# Altium integrated library TI Power Management LDO Single Channel(400-7500mA).IntLib: 1409 symbols (part 10 of 60)
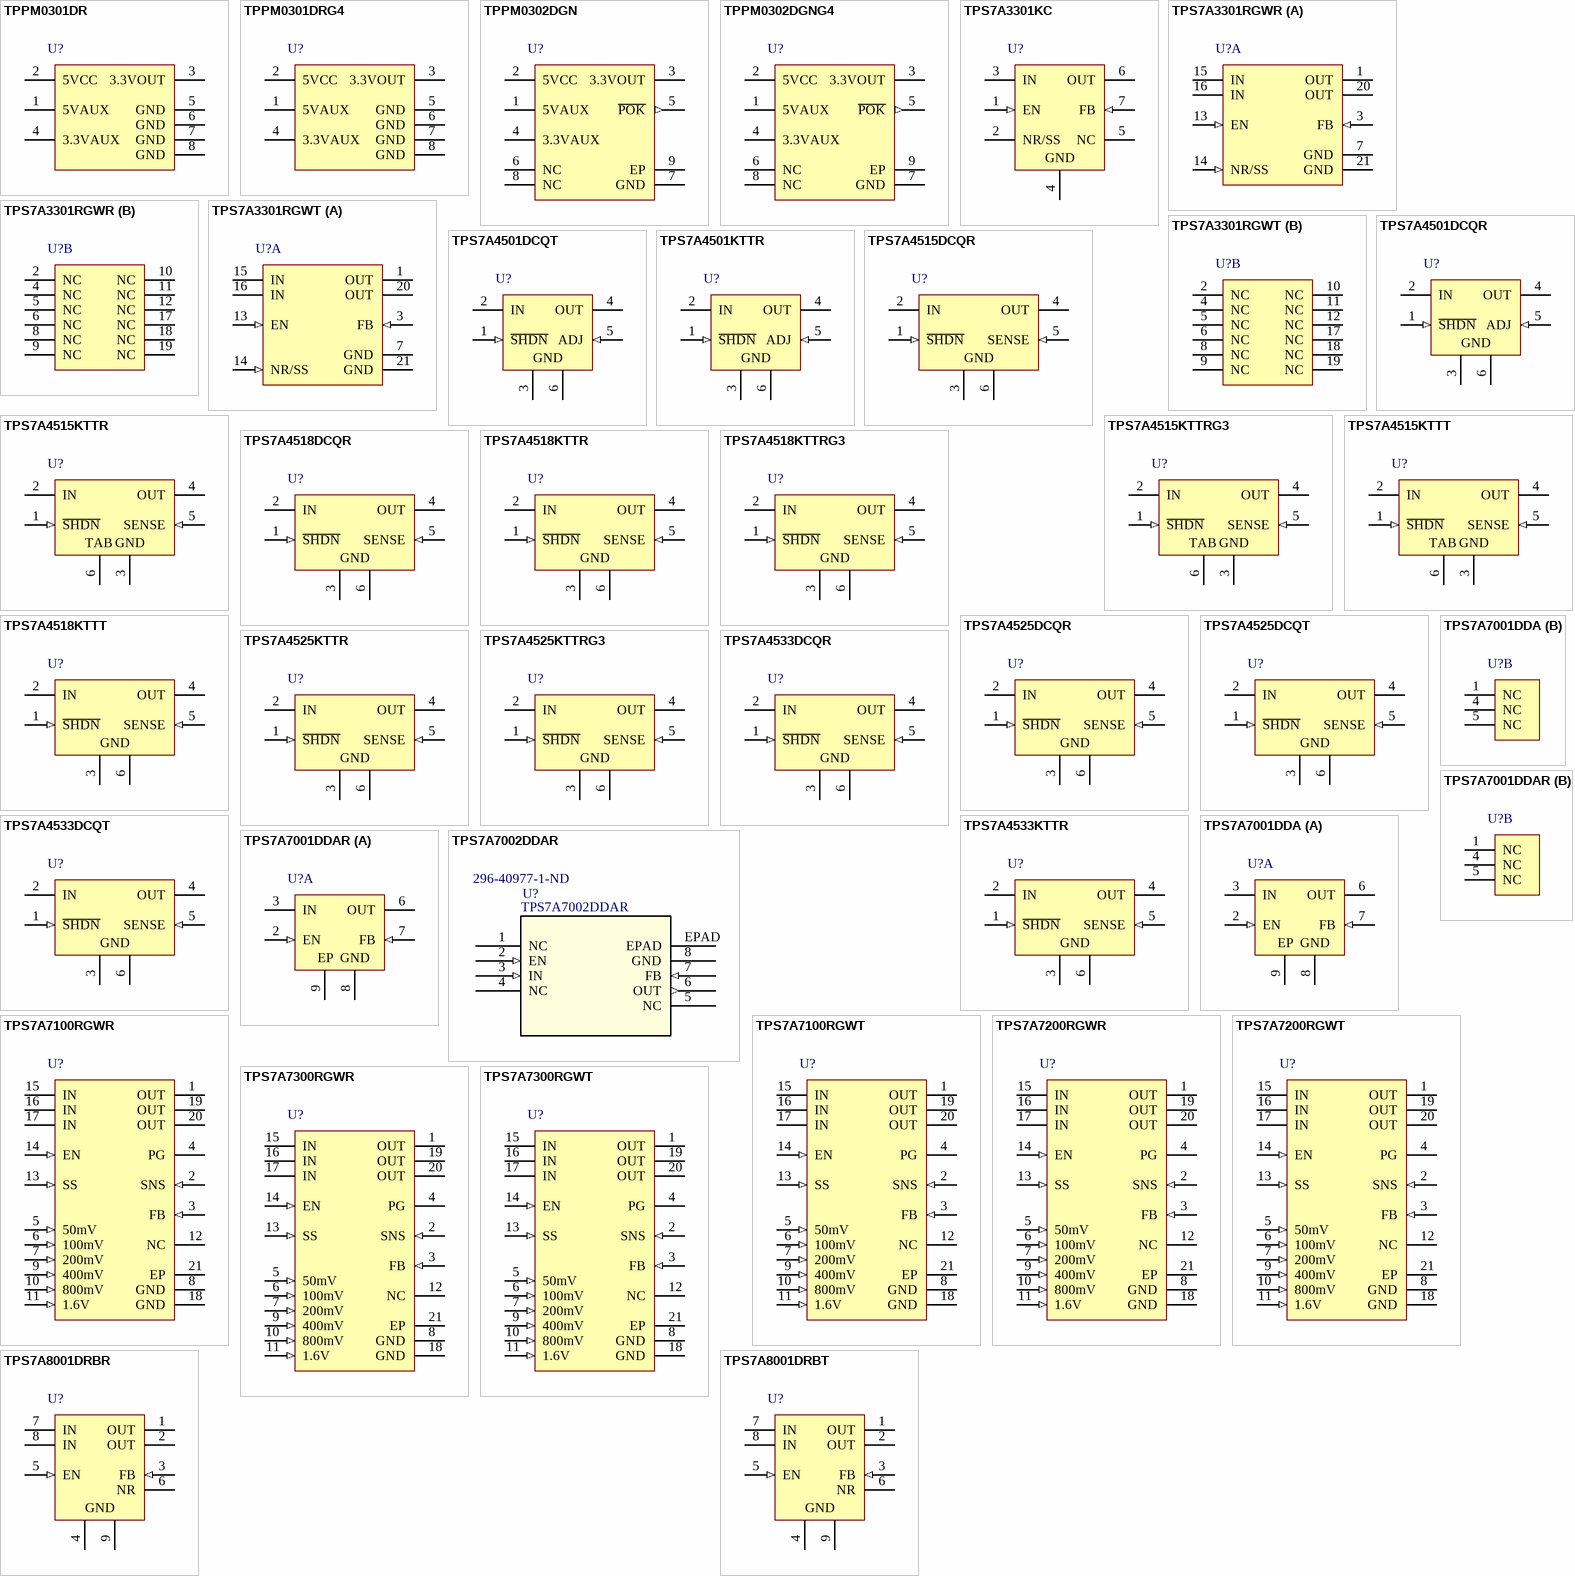
[diagram p59: symbols TPPM0301DR to TPS7A8001DRBT]

## TPS7A4515DCQR
designator U?
Single Output Fast Transient Response LDO, 1.5 A, Fixed 1.5 V Output, 2.1 to 20 V Input, 6-pin SOT-223 (DCQ), -40 to 125 degC, Green (RoHS & no Sb/Br); Manufacturer: Texas Instruments; PartNumber: TPS7A4515DCQR; Accuracy(%): 1; Fixed Output Options(V): 1.5; SubFamily: Single Channel LDO; Vdo(Typ)(mV): 300; Vin(Max)(V): 20; Vin(Min)(V): 2.1; DatasheetVersion: SLVS720D; PackageVersion: 4202109/D; PackageReference: DCQ6; PackageDescription: 6-Pin Plastic Small Outline, Body 3.5 x 6.5 mm, Pitch 1.27 mm; Supplier 1: Digi-Key; Supplier Part Number 1: 296-25413-2-ND; Supplier 2: Digi-Key; Supplier Part Number 2: 296-25413-1-ND; Supplier 3: Digi-Key; Supplier Part Number 3: 296-25413-6-ND; Supplier 4: Newark; Supplier Part Number 4: 55R7643; Supplier 5: Mouser; Supplier Part Number 5: 595-TPS7A4515DCQR; Eco-Plan: Green (RoHS & no Sb/Br); Iout(Max)(A): 1.5; Iq(Typ)(mA): 1; Vout Adj(Max)(V): 1.5; Vout Adj(Min)(V): 1.5; Mounting Technology: Surface Mount; ComponentLink1Description: Manufacturer URL; ComponentLink1URL: http://www.ti.com/; ComponentLink2Description: Datasheet; ComponentLink2URL: http://www.ti.com/general/docs/lit/getliterature.tsp?genericPartNumber=TPS7A4515&fileType=pdf; ComponentLink3Description: Package Specification; ComponentLink3URL: http://www.ti.com/litv/pdf/mpds098c
footprint TI-DCQ6_N (SOT223, 6-Leads, Body 6.5x3.5mm, Pitch 1.27mm, IPC Medium Density)
footprint TI-DCQ6_L (SOT223, 6-Leads, Body 6.5x3.5mm, Pitch 1.27mm, IPC High Density)
footprint TI-DCQ6_M (SOT223, 6-Leads, Body 6.5x3.5mm, Pitch 1.27mm, IPC Low Density)
pins: 1 ~{SHDN} (in) "Shutdown. S\H\D\N\ is used to put the TPS7A45xx regulators into a low-power shutdown state. The output is off when S\H\D\N\ is pulled low. S\H\D\N\ can be driven by 5-V logic, 3-V logic or open-collector logic with a pullup  (See Datasheet)", 2 IN (power) "Input. Power is supplied to the device through IN. A bypass capacitor is required on this pin if the device is more than six inches away from the main input filter capacitor. In general, the output impedance of a battery (See Datasheet)", 3 GND (power) "Ground", 4 OUT (power) "Output. The output supplies power to the load. A minimum output capacitor (ceramic) of 10 uF is required to  prevent oscillations. Larger output capacitors are required for applications with large transient loads to limit (See Datasheet)", 5 SENSE (in) "Sense. For fixed-voltage versions (TPS7A4515, TPS7A4518, TPS7A4525, and TPS7A4533), SENSE is the input to the error amplifier. Optimum regulation is obtained at the point where SENSE is connected to the OUT pin of the (See Datasheet)", 6 GND (power) "Ground. DCQ package only."

## TPS7A4515KTTR
designator U?
Single Output Fast Transient Response LDO, 1.5 A, Fixed 1.5 V Output, 2.1 to 20 V Input, 5-pin DDPAK (KTT), -40 to 125 degC, Green (RoHS & no Sb/Br); Manufacturer: Texas Instruments; PartNumber: TPS7A4515KTTR; Accuracy(%): 1; Fixed Output Options(V): 1.5; SubFamily: Single Channel LDO; Vdo(Typ)(mV): 300; Vin(Max)(V): 20; Vin(Min)(V): 2.1; DatasheetVersion: SLVS720D; PackageVersion: 4200577-3/F; PackageReference: KTT5; PackageDescription: 3-Pin Plastic Flange Mount, Body 10.16 x 10.34 mm, Pitch 1.7 mm; Supplier 1: Digi-Key; Supplier Part Number 1: 296-23752-2-ND; Supplier 2: Digi-Key; Supplier Part Number 2: 296-23752-1-ND; Supplier 3: Digi-Key; Supplier Part Number 3: 296-23752-6-ND; Supplier 4: Mouser; Supplier Part Number 4: 595-TPS7A4515KTTR; Eco-Plan: Green (RoHS & no Sb/Br); Iout(Max)(A): 1.5; Iq(Typ)(mA): 1; Vout Adj(Max)(V): 1.5; Vout Adj(Min)(V): 1.5; Mounting Technology: Surface Mount; Code_JEDEC: TO-263; ComponentLink1Description: Manufacturer URL; ComponentLink1URL: http://www.ti.com/; ComponentLink2Description: Datasheet; ComponentLink2URL: http://www.ti.com/general/docs/lit/getliterature.tsp?genericPartNumber=TPS7A4515&fileType=pdf; ComponentLink3Description: Package Specification; ComponentLink3URL: http://www.ti.com/litv/pdf/mpsf007e
footprint TI-KTT5_N (DPAK, 5-Leads, Body 10.16x8.925mm, Pitch 1.7mm, IPC Medium Density)
footprint TI-KTT5_L (DPAK, 5-Leads, Body 10.16x8.925mm, Pitch 1.7mm, IPC High Density)
footprint TI-KTT5_M (DPAK, 5-Leads, Body 10.16x8.925mm, Pitch 1.7mm, IPC Low Density)
pins: 1 ~{SHDN} (in) "Shutdown. S\H\D\N\ is used to put the TPS7A45xx regulators into a low-power shutdown state. The output is off when S\H\D\N\ is pulled low. S\H\D\N\ can be driven by 5-V logic, 3-V logic or open-collector logic with a pullup (See Datasheet)", 2 IN (power) "Input. Power is supplied to the device through IN. A bypass capacitor is required on this pin if the device is more than six inches away from the main input filter capacitor. In general, the output impedance of a battery (See Datasheet)", 3 GND (power) "Ground", 4 OUT (power) "Output. The output supplies power to the load. A minimum output capacitor (ceramic) of 10 uF is required to prevent oscillations. Larger output capacitors are required for applications with large transient loads to limit (See Datasheet)", 5 SENSE (in) "Sense. For fixed-voltage versions (TPS7A4515, TPS7A4518, TPS7A4525, and TPS7A4533), SENSE is the input to the error amplifier. Optimum regulation is obtained at the point where SENSE is connected to the OUT pin of the (See Datasheet)", 6 TAB (power) "For the KTT package, the exposed thermal pad is connected to GND and must be soldered to the PCB for rated thermal performance."

## TPS7A4515KTTRG3
designator U?
Single Output Fast Transient Response LDO, 1.5 A, Fixed 1.5 V Output, 2.1 to 20 V Input, 5-pin DDPAK (KTT), -40 to 125 degC, Green (RoHS & no Sb/Br); Manufacturer: Texas Instruments; PartNumber: TPS7A4515KTTRG3; Accuracy(%): 1; Fixed Output Options(V): 1.5; SubFamily: Single Channel LDO; Vdo(Typ)(mV): 300; Vin(Max)(V): 20; Vin(Min)(V): 2.1; DatasheetVersion: SLVS720D; PackageVersion: 4200577-3/F; PackageReference: KTT5; PackageDescription: 3-Pin Plastic Flange Mount, Body 10.16 x 10.34 mm, Pitch 1.7 mm; Supplier 1: Digi-Key; Supplier Part Number 1: TPS7A4515KTTRG3-ND; Supplier 2: Mouser; Supplier Part Number 2: 595-TPS7A4515KTTRG3; Eco-Plan: Green (RoHS & no Sb/Br); Iout(Max)(A): 1.5; Iq(Typ)(mA): 1; Vout Adj(Max)(V): 1.5; Vout Adj(Min)(V): 1.5; Mounting Technology: Surface Mount; Code_JEDEC: TO-263; ComponentLink1Description: Manufacturer URL; ComponentLink1URL: http://www.ti.com/; ComponentLink2Description: Datasheet; ComponentLink2URL: http://www.ti.com/general/docs/lit/getliterature.tsp?genericPartNumber=TPS7A4515&fileType=pdf; ComponentLink3Description: Package Specification; ComponentLink3URL: http://www.ti.com/litv/pdf/mpsf007e
footprint TI-KTT5_N (DPAK, 5-Leads, Body 10.16x8.925mm, Pitch 1.7mm, IPC Medium Density)
footprint TI-KTT5_L (DPAK, 5-Leads, Body 10.16x8.925mm, Pitch 1.7mm, IPC High Density)
footprint TI-KTT5_M (DPAK, 5-Leads, Body 10.16x8.925mm, Pitch 1.7mm, IPC Low Density)
pins: 1 ~{SHDN} (in) "Shutdown. S\H\D\N\ is used to put the TPS7A45xx regulators into a low-power shutdown state. The output is off when S\H\D\N\ is pulled low. S\H\D\N\ can be driven by 5-V logic, 3-V logic or open-collector logic with a pullup (See Datasheet)", 2 IN (power) "Input. Power is supplied to the device through IN. A bypass capacitor is required on this pin if the device is more than six inches away from the main input filter capacitor. In general, the output impedance of a battery (See Datasheet)", 3 GND (power) "Ground", 4 OUT (power) "Output. The output supplies power to the load. A minimum output capacitor (ceramic) of 10 uF is required to prevent oscillations. Larger output capacitors are required for applications with large transient loads to limit (See Datasheet)", 5 SENSE (in) "Sense. For fixed-voltage versions (TPS7A4515, TPS7A4518, TPS7A4525, and TPS7A4533), SENSE is the input to the error amplifier. Optimum regulation is obtained at the point where SENSE is connected to the OUT pin of the (See Datasheet)", 6 TAB (power) "For the KTT package, the exposed thermal pad is connected to GND and must be soldered to the PCB for rated thermal performance."

## TPS7A4515KTTT
designator U?
Single Output Fast Transient Response LDO, 1.5 A, Fixed 1.5 V Output, 2.1 to 20 V Input, 5-pin DDPAK (KTT), -40 to 125 degC; Manufacturer: Texas Instruments; PartNumber: TPS7A4515KTTT; Accuracy(%): 1; Fixed Output Options(V): 1.5; SubFamily: Single Channel LDO; Vdo(Typ)(mV): 300; Vin(Max)(V): 20; Vin(Min)(V): 2.1; DatasheetVersion: SLVS720D; PackageVersion: 4200577-3/F; PackageReference: KTT5; PackageDescription: 3-Pin Plastic Flange Mount, Body 10.16 x 10.34 mm, Pitch 1.7 mm; Supplier 1: Mouser; Supplier Part Number 1: N/A; Iout(Max)(A): 1.5; Iq(Typ)(mA): 1; Vout Adj(Max)(V): 1.5; Vout Adj(Min)(V): 1.5; Mounting Technology: Surface Mount; Code_JEDEC: TO-263; ComponentLink1Description: Manufacturer URL; ComponentLink1URL: http://www.ti.com/; ComponentLink2Description: Datasheet; ComponentLink2URL: http://www.ti.com/general/docs/lit/getliterature.tsp?genericPartNumber=TPS7A4515&fileType=pdf; ComponentLink3Description: Package Specification; ComponentLink3URL: http://www.ti.com/litv/pdf/mpsf007e
footprint TI-KTT5_N (DPAK, 5-Leads, Body 10.16x8.925mm, Pitch 1.7mm, IPC Medium Density)
footprint TI-KTT5_L (DPAK, 5-Leads, Body 10.16x8.925mm, Pitch 1.7mm, IPC High Density)
footprint TI-KTT5_M (DPAK, 5-Leads, Body 10.16x8.925mm, Pitch 1.7mm, IPC Low Density)
pins: 1 ~{SHDN} (in) "Shutdown. S\H\D\N\ is used to put the TPS7A45xx regulators into a low-power shutdown state. The output is off when S\H\D\N\ is pulled low. S\H\D\N\ can be driven by 5-V logic, 3-V logic or open-collector logic with a pullup (See Datasheet)", 2 IN (power) "Input. Power is supplied to the device through IN. A bypass capacitor is required on this pin if the device is more than six inches away from the main input filter capacitor. In general, the output impedance of a battery (See Datasheet)", 3 GND (power) "Ground", 4 OUT (power) "Output. The output supplies power to the load. A minimum output capacitor (ceramic) of 10 uF is required to prevent oscillations. Larger output capacitors are required for applications with large transient loads to limit (See Datasheet)", 5 SENSE (in) "Sense. For fixed-voltage versions (TPS7A4515, TPS7A4518, TPS7A4525, and TPS7A4533), SENSE is the input to the error amplifier. Optimum regulation is obtained at the point where SENSE is connected to the OUT pin of the (See Datasheet)", 6 TAB (power) "For the KTT package, the exposed thermal pad is connected to GND and must be soldered to the PCB for rated thermal performance."

## TPS7A4518DCQR
designator U?
Single Output Fast Transient Response LDO, 1.5 A, Fixed 1.8 V Output, 2.1 to 20 V Input, 6-pin SOT-223 (DCQ), -40 to 125 degC, Green (RoHS & no Sb/Br); Manufacturer: Texas Instruments; PartNumber: TPS7A4518DCQR; Accuracy(%): 1; Fixed Output Options(V): 1.8; Iout(Max)(A): 1.5; SubFamily: Single Channel LDO; Vdo(Typ)(mV): 300; Vin(Max)(V): 20; Vin(Min)(V): 2.1; DatasheetVersion: SLVS720D; PackageVersion: 4202109/D; PackageReference: DCQ6; PackageDescription: 6-Pin Plastic Small Outline, Body 3.5 x 6.5 mm, Pitch 1.27 mm; Supplier 1: Digi-Key; Supplier Part Number 1: 296-25414-2-ND; Supplier 2: Digi-Key; Supplier Part Number 2: 296-25414-1-ND; Supplier 3: Digi-Key; Supplier Part Number 3: 296-25414-6-ND; Supplier 4: Mouser; Supplier Part Number 4: 595-TPS7A4518DCQR; Eco-Plan: Green (RoHS & no Sb/Br); Iq(Typ)(mA): 1; Vout Adj(Max)(V): 1.8; Vout Adj(Min)(V): 1.8; Mounting Technology: Surface Mount; ComponentLink1Description: Manufacturer URL; ComponentLink1URL: http://www.ti.com/; ComponentLink2Description: Datasheet; ComponentLink2URL: http://www.ti.com/general/docs/lit/getliterature.tsp?genericPartNumber=TPS7A4518&fileType=pdf; ComponentLink3Description: Package Specification; ComponentLink3URL: http://www.ti.com/litv/pdf/mpds098c
footprint TI-DCQ6_N (SOT223, 6-Leads, Body 6.5x3.5mm, Pitch 1.27mm, IPC Medium Density)
footprint TI-DCQ6_L (SOT223, 6-Leads, Body 6.5x3.5mm, Pitch 1.27mm, IPC High Density)
footprint TI-DCQ6_M (SOT223, 6-Leads, Body 6.5x3.5mm, Pitch 1.27mm, IPC Low Density)
pins: 1 ~{SHDN} (in) "Shutdown. S\H\D\N\ is used to put the TPS7A45xx regulators into a low-power shutdown state. The output is off when S\H\D\N\ is pulled low. S\H\D\N\ can be driven by 5-V logic, 3-V logic or open-collector logic with a pullup  (See Datasheet)", 2 IN (power) "Input. Power is supplied to the device through IN. A bypass capacitor is required on this pin if the device is more than six inches away from the main input filter capacitor. In general, the output impedance of a battery (See Datasheet)", 3 GND (power) "Ground", 4 OUT (power) "Output. The output supplies power to the load. A minimum output capacitor (ceramic) of 10 uF is required to  prevent oscillations. Larger output capacitors are required for applications with large transient loads to limit (See Datasheet)", 5 SENSE (in) "Sense. For fixed-voltage versions (TPS7A4515, TPS7A4518, TPS7A4525, and TPS7A4533), SENSE is the input to the error amplifier. Optimum regulation is obtained at the point where SENSE is connected to the OUT pin of the (See Datasheet)", 6 GND (power) "Ground. DCQ package only."

## TPS7A4518KTTR
designator U?
Single Output Fast Transient Response LDO, 1.5 A, Fixed 1.8 V Output, 2.1 to 20 V Input, 5-pin DDPAK (KTT), -40 to 125 degC, Green (RoHS & no Sb/Br); Manufacturer: Texas Instruments; PartNumber: TPS7A4518KTTR; Accuracy(%): 1; Fixed Output Options(V): 1.8; Iout(Max)(A): 1.5; SubFamily: Single Channel LDO; Vdo(Typ)(mV): 300; Vin(Max)(V): 20; Vin(Min)(V): 2.1; DatasheetVersion: SLVS720D; PackageVersion: 4200577-3/F; PackageReference: KTT5; PackageDescription: 3-Pin Plastic Flange Mount, Body 10.16 x 10.34 mm, Pitch 1.7 mm; Supplier 1: Digi-Key; Supplier Part Number 1: 296-23753-2-ND; Supplier 2: Digi-Key; Supplier Part Number 2: 296-23753-1-ND; Supplier 3: Digi-Key; Supplier Part Number 3: 296-23753-6-ND; Supplier 4: Mouser; Supplier Part Number 4: 595-TPS7A4518KTTR; Eco-Plan: Green (RoHS & no Sb/Br); Iq(Typ)(mA): 1; Vout Adj(Max)(V): 1.8; Vout Adj(Min)(V): 1.8; Mounting Technology: Surface Mount; Code_JEDEC: TO-263; ComponentLink1Description: Manufacturer URL; ComponentLink1URL: http://www.ti.com/; ComponentLink2Description: Datasheet; ComponentLink2URL: http://www.ti.com/general/docs/lit/getliterature.tsp?genericPartNumber=TPS7A4518&fileType=pdf; ComponentLink3Description: Package Specification; ComponentLink3URL: http://www.ti.com/litv/pdf/mpsf007e
footprint TI-KTT5_N (DPAK, 5-Leads, Body 10.16x8.925mm, Pitch 1.7mm, IPC Medium Density)
footprint TI-KTT5_L (DPAK, 5-Leads, Body 10.16x8.925mm, Pitch 1.7mm, IPC High Density)
footprint TI-KTT5_M (DPAK, 5-Leads, Body 10.16x8.925mm, Pitch 1.7mm, IPC Low Density)
pins: 1 ~{SHDN} (in) "Shutdown. S\H\D\N\ is used to put the TPS7A45xx regulators into a low-power shutdown state. The output is off when S\H\D\N\ is pulled low. S\H\D\N\ can be driven by 5-V logic, 3-V logic or open-collector logic with a pullup  (See Datasheet)", 2 IN (power) "Input. Power is supplied to the device through IN. A bypass capacitor is required on this pin if the device is more than six inches away from the main input filter capacitor. In general, the output impedance of a battery (See Datasheet)", 3 GND (power) "Ground", 4 OUT (power) "Output. The output supplies power to the load. A minimum output capacitor (ceramic) of 10 uF is required to  prevent oscillations. Larger output capacitors are required for applications with large transient loads to limit (See Datasheet)", 5 SENSE (in) "Sense. For fixed-voltage versions (TPS7A4515, TPS7A4518, TPS7A4525, and TPS7A4533), SENSE is the input to the error amplifier. Optimum regulation is obtained at the point where SENSE is connected to the OUT pin of the (See Datasheet)", 6 GND (power) "Ground. DCQ package only."

## TPS7A4518KTTRG3
designator U?
Single Output Fast Transient Response LDO, 1.5 A, Fixed 1.8 V Output, 2.1 to 20 V Input, 5-pin DDPAK (KTT), -40 to 125 degC, Green (RoHS & no Sb/Br); Manufacturer: Texas Instruments; PartNumber: TPS7A4518KTTRG3; Accuracy(%): 1; Fixed Output Options(V): 1.8; Iout(Max)(A): 1.5; SubFamily: Single Channel LDO; Vdo(Typ)(mV): 300; Vin(Max)(V): 20; Vin(Min)(V): 2.1; DatasheetVersion: SLVS720D; PackageVersion: 4200577-3/F; PackageReference: KTT5; PackageDescription: 3-Pin Plastic Flange Mount, Body 10.16 x 10.34 mm, Pitch 1.7 mm; Supplier 1: Digi-Key; Supplier Part Number 1: TPS7A4518KTTRG3-ND; Supplier 2: Mouser; Supplier Part Number 2: 595-TPS7A4518KTTRG3; Eco-Plan: Green (RoHS & no Sb/Br); Iq(Typ)(mA): 1; Vout Adj(Max)(V): 1.8; Vout Adj(Min)(V): 1.8; Mounting Technology: Surface Mount; Code_JEDEC: TO-263; ComponentLink1Description: Manufacturer URL; ComponentLink1URL: http://www.ti.com/; ComponentLink2Description: Datasheet; ComponentLink2URL: http://www.ti.com/general/docs/lit/getliterature.tsp?genericPartNumber=TPS7A4518&fileType=pdf; ComponentLink3Description: Package Specification; ComponentLink3URL: http://www.ti.com/litv/pdf/mpsf007e
footprint TI-KTT5_N (DPAK, 5-Leads, Body 10.16x8.925mm, Pitch 1.7mm, IPC Medium Density)
footprint TI-KTT5_L (DPAK, 5-Leads, Body 10.16x8.925mm, Pitch 1.7mm, IPC High Density)
footprint TI-KTT5_M (DPAK, 5-Leads, Body 10.16x8.925mm, Pitch 1.7mm, IPC Low Density)
pins: 1 ~{SHDN} (in) "Shutdown. S\H\D\N\ is used to put the TPS7A45xx regulators into a low-power shutdown state. The output is off when S\H\D\N\ is pulled low. S\H\D\N\ can be driven by 5-V logic, 3-V logic or open-collector logic with a pullup  (See Datasheet)", 2 IN (power) "Input. Power is supplied to the device through IN. A bypass capacitor is required on this pin if the device is more than six inches away from the main input filter capacitor. In general, the output impedance of a battery (See Datasheet)", 3 GND (power) "Ground", 4 OUT (power) "Output. The output supplies power to the load. A minimum output capacitor (ceramic) of 10 uF is required to  prevent oscillations. Larger output capacitors are required for applications with large transient loads to limit (See Datasheet)", 5 SENSE (in) "Sense. For fixed-voltage versions (TPS7A4515, TPS7A4518, TPS7A4525, and TPS7A4533), SENSE is the input to the error amplifier. Optimum regulation is obtained at the point where SENSE is connected to the OUT pin of the (See Datasheet)", 6 GND (power) "Ground. DCQ package only."

## TPS7A4518KTTT
designator U?
Single Output Fast Transient Response LDO, 1.5 A, Fixed 1.8 V Output, 2.1 to 20 V Input, 5-pin DDPAK (KTT), -40 to 125 degC; Manufacturer: Texas Instruments; PartNumber: TPS7A4518KTTT; Accuracy(%): 1; Fixed Output Options(V): 1.8; Iout(Max)(A): 1.5; SubFamily: Single Channel LDO; Vdo(Typ)(mV): 300; Vin(Max)(V): 20; Vin(Min)(V): 2.1; DatasheetVersion: SLVS720D; PackageVersion: 4200577-3/F; PackageReference: KTT5; PackageDescription: 3-Pin Plastic Flange Mount, Body 10.16 x 10.34 mm, Pitch 1.7 mm; Supplier 1: Mouser; Supplier Part Number 1: N/A; Iq(Typ)(mA): 1; Vout Adj(Max)(V): 1.8; Vout Adj(Min)(V): 1.8; Mounting Technology: Surface Mount; Code_JEDEC: TO-263; ComponentLink1Description: Manufacturer URL; ComponentLink1URL: http://www.ti.com/; ComponentLink2Description: Datasheet; ComponentLink2URL: http://www.ti.com/general/docs/lit/getliterature.tsp?genericPartNumber=TPS7A4518&fileType=pdf; ComponentLink3Description: Package Specification; ComponentLink3URL: http://www.ti.com/litv/pdf/mpsf007e
footprint TI-KTT5_N (DPAK, 5-Leads, Body 10.16x8.925mm, Pitch 1.7mm, IPC Medium Density)
footprint TI-KTT5_L (DPAK, 5-Leads, Body 10.16x8.925mm, Pitch 1.7mm, IPC High Density)
footprint TI-KTT5_M (DPAK, 5-Leads, Body 10.16x8.925mm, Pitch 1.7mm, IPC Low Density)
pins: 1 ~{SHDN} (in) "Shutdown. S\H\D\N\ is used to put the TPS7A45xx regulators into a low-power shutdown state. The output is off when S\H\D\N\ is pulled low. S\H\D\N\ can be driven by 5-V logic, 3-V logic or open-collector logic with a pullup  (See Datasheet)", 2 IN (power) "Input. Power is supplied to the device through IN. A bypass capacitor is required on this pin if the device is more than six inches away from the main input filter capacitor. In general, the output impedance of a battery (See Datasheet)", 3 GND (power) "Ground", 4 OUT (power) "Output. The output supplies power to the load. A minimum output capacitor (ceramic) of 10 uF is required to  prevent oscillations. Larger output capacitors are required for applications with large transient loads to limit (See Datasheet)", 5 SENSE (in) "Sense. For fixed-voltage versions (TPS7A4515, TPS7A4518, TPS7A4525, and TPS7A4533), SENSE is the input to the error amplifier. Optimum regulation is obtained at the point where SENSE is connected to the OUT pin of the (See Datasheet)", 6 GND (power) "Ground. DCQ package only."

## TPS7A4525DCQR
designator U?
Single Output Fast Transient Response LDO, 1.5 A, Fixed 2.5 V Output, 2.1 to 20 V Input, 6-pin SOT-223 (DCQ), -40 to 125 degC, Green (RoHS & no Sb/Br); Manufacturer: Texas Instruments; PartNumber: TPS7A4525DCQR; Accuracy(%): 1; Fixed Output Options(V): 2.5; Iout(Max)(A): 1.5; SubFamily: Single Channel LDO; Vdo(Typ)(mV): 300; Vin(Max)(V): 20; Vin(Min)(V): 2.1; DatasheetVersion: SLVS720D; PackageVersion: 4202109/D; PackageReference: DCQ6; PackageDescription: 6-Pin Plastic Small Outline, Body 3.5 x 6.5 mm, Pitch 1.27 mm; Supplier 1: Digi-Key; Supplier Part Number 1: TPS7A4525DCQR-ND; Supplier 2: Newark; Supplier Part Number 2: 61T6059; Supplier 3: Mouser; Supplier Part Number 3: 595-TPS7A4525DCQR; Eco-Plan: Green (RoHS & no Sb/Br); Iq(Typ)(mA): 1; Vout Adj(Max)(V): 2.5; Vout Adj(Min)(V): 2.5; Mounting Technology: Surface Mount; ComponentLink1Description: Manufacturer URL; ComponentLink1URL: http://www.ti.com/; ComponentLink2Description: Datasheet; ComponentLink2URL: http://www.ti.com/general/docs/lit/getliterature.tsp?genericPartNumber=TPS7A4525&fileType=pdf; ComponentLink3Description: Package Specification; ComponentLink3URL: http://www.ti.com/litv/pdf/mpds098c
footprint TI-DCQ6_N (SOT223, 6-Leads, Body 6.5x3.5mm, Pitch 1.27mm, IPC Medium Density)
footprint TI-DCQ6_L (SOT223, 6-Leads, Body 6.5x3.5mm, Pitch 1.27mm, IPC High Density)
footprint TI-DCQ6_M (SOT223, 6-Leads, Body 6.5x3.5mm, Pitch 1.27mm, IPC Low Density)
pins: 1 ~{SHDN} (in) "Shutdown. S\H\D\N\ is used to put the TPS7A45xx regulators into a low-power shutdown state. The output is off when S\H\D\N\ is pulled low. S\H\D\N\ can be driven by 5-V logic, 3-V logic or open-collector logic with a pullup  (See Datasheet)", 2 IN (power) "Input. Power is supplied to the device through IN. A bypass capacitor is required on this pin if the device is more than six inches away from the main input filter capacitor. In general, the output impedance of a battery (See Datasheet)", 3 GND (power) "Ground", 4 OUT (power) "Output. The output supplies power to the load. A minimum output capacitor (ceramic) of 10 uF is required to  prevent oscillations. Larger output capacitors are required for applications with large transient loads to limit (See Datasheet)", 5 SENSE (in) "Sense. For fixed-voltage versions (TPS7A4515, TPS7A4518, TPS7A4525, and TPS7A4533), SENSE is the input to the error amplifier. Optimum regulation is obtained at the point where SENSE is connected to the OUT pin of the (See Datasheet)", 6 GND (power) "Ground. DCQ package only."

## TPS7A4525DCQT
designator U?
Single Output Fast Transient Response LDO, 1.5 A, Fixed 2.5 V Output, 2.1 to 20 V Input, 6-pin SOT-223 (DCQ), -40 to 125 degC, Green (RoHS & no Sb/Br); Manufacturer: Texas Instruments; PartNumber: TPS7A4525DCQT; Accuracy(%): 1; Fixed Output Options(V): 2.5; Iout(Max)(A): 1.5; SubFamily: Single Channel LDO; Vdo(Typ)(mV): 300; Vin(Max)(V): 20; Vin(Min)(V): 2.1; DatasheetVersion: SLVS720D; PackageVersion: 4202109/D; PackageReference: DCQ6; PackageDescription: 6-Pin Plastic Small Outline, Body 3.5 x 6.5 mm, Pitch 1.27 mm; Supplier 1: Digi-Key; Supplier Part Number 1: TPS7A4525DCQT-ND; Supplier 2: Mouser; Supplier Part Number 2: 595-TPS7A4525DCQT; Eco-Plan: Green (RoHS & no Sb/Br); Iq(Typ)(mA): 1; Vout Adj(Max)(V): 2.5; Vout Adj(Min)(V): 2.5; Mounting Technology: Surface Mount; ComponentLink1Description: Manufacturer URL; ComponentLink1URL: http://www.ti.com/; ComponentLink2Description: Datasheet; ComponentLink2URL: http://www.ti.com/general/docs/lit/getliterature.tsp?genericPartNumber=TPS7A4525&fileType=pdf; ComponentLink3Description: Package Specification; ComponentLink3URL: http://www.ti.com/litv/pdf/mpds098c
footprint TI-DCQ6_N (SOT223, 6-Leads, Body 6.5x3.5mm, Pitch 1.27mm, IPC Medium Density)
footprint TI-DCQ6_L (SOT223, 6-Leads, Body 6.5x3.5mm, Pitch 1.27mm, IPC High Density)
footprint TI-DCQ6_M (SOT223, 6-Leads, Body 6.5x3.5mm, Pitch 1.27mm, IPC Low Density)
pins: 1 ~{SHDN} (in) "Shutdown. S\H\D\N\ is used to put the TPS7A45xx regulators into a low-power shutdown state. The output is off when S\H\D\N\ is pulled low. S\H\D\N\ can be driven by 5-V logic, 3-V logic or open-collector logic with a pullup  (See Datasheet)", 2 IN (power) "Input. Power is supplied to the device through IN. A bypass capacitor is required on this pin if the device is more than six inches away from the main input filter capacitor. In general, the output impedance of a battery (See Datasheet)", 3 GND (power) "Ground", 4 OUT (power) "Output. The output supplies power to the load. A minimum output capacitor (ceramic) of 10 uF is required to  prevent oscillations. Larger output capacitors are required for applications with large transient loads to limit (See Datasheet)", 5 SENSE (in) "Sense. For fixed-voltage versions (TPS7A4515, TPS7A4518, TPS7A4525, and TPS7A4533), SENSE is the input to the error amplifier. Optimum regulation is obtained at the point where SENSE is connected to the OUT pin of the (See Datasheet)", 6 GND (power) "Ground. DCQ package only."

## TPS7A4525KTTR
designator U?
Single Output Fast Transient Response LDO, 1.5 A, Fixed 2.5 V Output, 2.1 to 20 V Input, 5-pin DDPAK (KTT), -40 to 125 degC, Green (RoHS & no Sb/Br); Manufacturer: Texas Instruments; PartNumber: TPS7A4525KTTR; Accuracy(%): 1; Fixed Output Options(V): 2.5; Iout(Max)(A): 1.5; SubFamily: Single Channel LDO; Vdo(Typ)(mV): 300; Vin(Max)(V): 20; Vin(Min)(V): 2.1; DatasheetVersion: SLVS720D; PackageVersion: 4200577-3/F; PackageReference: KTT5; PackageDescription: 3-Pin Plastic Flange Mount, Body 10.16 x 10.34 mm, Pitch 1.7 mm; Supplier 1: Digi-Key; Supplier Part Number 1: 296-23754-2-ND; Supplier 2: Digi-Key; Supplier Part Number 2: 296-23754-1-ND; Supplier 3: Digi-Key; Supplier Part Number 3: 296-23754-6-ND; Supplier 4: Newark; Supplier Part Number 4: 33R2196; Supplier 5: Mouser; Supplier Part Number 5: 595-TPS7A4525KTTR; Eco-Plan: Green (RoHS & no Sb/Br); Iq(Typ)(mA): 1; Vout Adj(Max)(V): 2.5; Vout Adj(Min)(V): 2.5; Mounting Technology: Surface Mount; Code_JEDEC: TO-263; ComponentLink1Description: Manufacturer URL; ComponentLink1URL: http://www.ti.com/; ComponentLink2Description: Datasheet; ComponentLink2URL: http://www.ti.com/general/docs/lit/getliterature.tsp?genericPartNumber=TPS7A4525&fileType=pdf; ComponentLink3Description: Package Specification; ComponentLink3URL: http://www.ti.com/litv/pdf/mpsf007e
footprint TI-KTT5_N (DPAK, 5-Leads, Body 10.16x8.925mm, Pitch 1.7mm, IPC Medium Density)
footprint TI-KTT5_L (DPAK, 5-Leads, Body 10.16x8.925mm, Pitch 1.7mm, IPC High Density)
footprint TI-KTT5_M (DPAK, 5-Leads, Body 10.16x8.925mm, Pitch 1.7mm, IPC Low Density)
pins: 1 ~{SHDN} (in) "Shutdown. S\H\D\N\ is used to put the TPS7A45xx regulators into a low-power shutdown state. The output is off when S\H\D\N\ is pulled low. S\H\D\N\ can be driven by 5-V logic, 3-V logic or open-collector logic with a pullup  (See Datasheet)", 2 IN (power) "Input. Power is supplied to the device through IN. A bypass capacitor is required on this pin if the device is more than six inches away from the main input filter capacitor. In general, the output impedance of a battery (See Datasheet)", 3 GND (power) "Ground", 4 OUT (power) "Output. The output supplies power to the load. A minimum output capacitor (ceramic) of 10 uF is required to  prevent oscillations. Larger output capacitors are required for applications with large transient loads to limit (See Datasheet)", 5 SENSE (in) "Sense. For fixed-voltage versions (TPS7A4515, TPS7A4518, TPS7A4525, and TPS7A4533), SENSE is the input to the error amplifier. Optimum regulation is obtained at the point where SENSE is connected to the OUT pin of the (See Datasheet)", 6 GND (power) "Ground. DCQ package only."

## TPS7A4525KTTRG3
designator U?
Single Output Fast Transient Response LDO, 1.5 A, Fixed 2.5 V Output, 2.1 to 20 V Input, 5-pin DDPAK (KTT), -40 to 125 degC, Green (RoHS & no Sb/Br); Manufacturer: Texas Instruments; PartNumber: TPS7A4525KTTRG3; Accuracy(%): 1; Fixed Output Options(V): 2.5; Iout(Max)(A): 1.5; SubFamily: Single Channel LDO; Vdo(Typ)(mV): 300; Vin(Max)(V): 20; Vin(Min)(V): 2.1; DatasheetVersion: SLVS720D; PackageVersion: 4200577-3/F; PackageReference: KTT5; PackageDescription: 3-Pin Plastic Flange Mount, Body 10.16 x 10.34 mm, Pitch 1.7 mm; Supplier 1: Digi-Key; Supplier Part Number 1: TPS7A4525KTTRG3-ND; Supplier 2: Mouser; Supplier Part Number 2: 595-TPS7A4525KTTRG3; Eco-Plan: Green (RoHS & no Sb/Br); Iq(Typ)(mA): 1; Vout Adj(Max)(V): 2.5; Vout Adj(Min)(V): 2.5; Mounting Technology: Surface Mount; Code_JEDEC: TO-263; ComponentLink1Description: Manufacturer URL; ComponentLink1URL: http://www.ti.com/; ComponentLink2Description: Datasheet; ComponentLink2URL: http://www.ti.com/general/docs/lit/getliterature.tsp?genericPartNumber=TPS7A4525&fileType=pdf; ComponentLink3Description: Package Specification; ComponentLink3URL: http://www.ti.com/litv/pdf/mpsf007e
footprint TI-KTT5_N (DPAK, 5-Leads, Body 10.16x8.925mm, Pitch 1.7mm, IPC Medium Density)
footprint TI-KTT5_L (DPAK, 5-Leads, Body 10.16x8.925mm, Pitch 1.7mm, IPC High Density)
footprint TI-KTT5_M (DPAK, 5-Leads, Body 10.16x8.925mm, Pitch 1.7mm, IPC Low Density)
pins: 1 ~{SHDN} (in) "Shutdown. S\H\D\N\ is used to put the TPS7A45xx regulators into a low-power shutdown state. The output is off when S\H\D\N\ is pulled low. S\H\D\N\ can be driven by 5-V logic, 3-V logic or open-collector logic with a pullup  (See Datasheet)", 2 IN (power) "Input. Power is supplied to the device through IN. A bypass capacitor is required on this pin if the device is more than six inches away from the main input filter capacitor. In general, the output impedance of a battery (See Datasheet)", 3 GND (power) "Ground", 4 OUT (power) "Output. The output supplies power to the load. A minimum output capacitor (ceramic) of 10 uF is required to  prevent oscillations. Larger output capacitors are required for applications with large transient loads to limit (See Datasheet)", 5 SENSE (in) "Sense. For fixed-voltage versions (TPS7A4515, TPS7A4518, TPS7A4525, and TPS7A4533), SENSE is the input to the error amplifier. Optimum regulation is obtained at the point where SENSE is connected to the OUT pin of the (See Datasheet)", 6 GND (power) "Ground. DCQ package only."

## TPS7A4533DCQR
designator U?
Single Output Fast Transient Response LDO, 1.5 A, Fixed 3.3 V Output, 2.1 to 20 V Input, 6-pin SOT-223 (DCQ), -40 to 125 degC, Green (RoHS & no Sb/Br); Manufacturer: Texas Instruments; PartNumber: TPS7A4533DCQR; Accuracy(%): 1; Fixed Output Options(V): 3.3; Iout(Max)(A): 1.5; SubFamily: Single Channel LDO; Vdo(Typ)(mV): 300; Vin(Max)(V): 20; Vin(Min)(V): 2.1; DatasheetVersion: SLVS720D; PackageVersion: 4202109/D; PackageReference: DCQ6; PackageDescription: 6-Pin Plastic Small Outline, Body 3.5 x 6.5 mm, Pitch 1.27 mm; Supplier 1: Digi-Key; Supplier Part Number 1: TPS7A4533DCQR-ND; Supplier 2: Newark; Supplier Part Number 2: 69R0445; Supplier 3: Mouser; Supplier Part Number 3: 595-TPS7A4533DCQR; Eco-Plan: Green (RoHS & no Sb/Br); Iq(Typ)(mA): 1; Vout Adj(Max)(V): 3.3; Vout Adj(Min)(V): 3.3; Mounting Technology: Surface Mount; ComponentLink1Description: Manufacturer URL; ComponentLink1URL: http://www.ti.com/; ComponentLink2Description: Datasheet; ComponentLink2URL: http://www.ti.com/general/docs/lit/getliterature.tsp?genericPartNumber=TPS7A4533&fileType=pdf; ComponentLink3Description: Package Specification; ComponentLink3URL: http://www.ti.com/litv/pdf/mpds098c
footprint TI-DCQ6_N (SOT223, 6-Leads, Body 6.5x3.5mm, Pitch 1.27mm, IPC Medium Density)
footprint TI-DCQ6_L (SOT223, 6-Leads, Body 6.5x3.5mm, Pitch 1.27mm, IPC High Density)
footprint TI-DCQ6_M (SOT223, 6-Leads, Body 6.5x3.5mm, Pitch 1.27mm, IPC Low Density)
pins: 1 ~{SHDN} (in) "Shutdown. S\H\D\N\ is used to put the TPS7A45xx regulators into a low-power shutdown state. The output is off when S\H\D\N\ is pulled low. S\H\D\N\ can be driven by 5-V logic, 3-V logic or open-collector logic with a pullup  (See Datasheet)", 2 IN (power) "Input. Power is supplied to the device through IN. A bypass capacitor is required on this pin if the device is more than six inches away from the main input filter capacitor. In general, the output impedance of a battery (See Datasheet)", 3 GND (power) "Ground", 4 OUT (power) "Output. The output supplies power to the load. A minimum output capacitor (ceramic) of 10 uF is required to  prevent oscillations. Larger output capacitors are required for applications with large transient loads to limit (See Datasheet)", 5 SENSE (in) "Sense. For fixed-voltage versions (TPS7A4515, TPS7A4518, TPS7A4525, and TPS7A4533), SENSE is the input to the error amplifier. Optimum regulation is obtained at the point where SENSE is connected to the OUT pin of the (See Datasheet)", 6 GND (power) "Ground. DCQ package only."

## TPS7A4533DCQT
designator U?
Single Output Fast Transient Response LDO, 1.5 A, Fixed 3.3 V Output, 2.1 to 20 V Input, 6-pin SOT-223 (DCQ), -40 to 125 degC, Green (RoHS & no Sb/Br); Manufacturer: Texas Instruments; PartNumber: TPS7A4533DCQT; Accuracy(%): 1; Fixed Output Options(V): 3.3; Iout(Max)(A): 1.5; SubFamily: Single Channel LDO; Vdo(Typ)(mV): 300; Vin(Max)(V): 20; Vin(Min)(V): 2.1; DatasheetVersion: SLVS720D; PackageVersion: 4202109/D; PackageReference: DCQ6; PackageDescription: 6-Pin Plastic Small Outline, Body 3.5 x 6.5 mm, Pitch 1.27 mm; Supplier 1: Digi-Key; Supplier Part Number 1: 296-32587-2-ND; Supplier 2: Digi-Key; Supplier Part Number 2: 296-32587-1-ND; Supplier 3: Digi-Key; Supplier Part Number 3: 296-32587-6-ND; Supplier 4: Newark; Supplier Part Number 4: 69R0446; Supplier 5: Mouser; Supplier Part Number 5: 595-TPS7A4533DCQT; Eco-Plan: Green (RoHS & no Sb/Br); Iq(Typ)(mA): 1; Vout Adj(Max)(V): 3.3; Vout Adj(Min)(V): 3.3; Mounting Technology: Surface Mount; ComponentLink1Description: Manufacturer URL; ComponentLink1URL: http://www.ti.com/; ComponentLink2Description: Datasheet; ComponentLink2URL: http://www.ti.com/general/docs/lit/getliterature.tsp?genericPartNumber=TPS7A4533&fileType=pdf; ComponentLink3Description: Package Specification; ComponentLink3URL: http://www.ti.com/litv/pdf/mpds098c
footprint TI-DCQ6_N (SOT223, 6-Leads, Body 6.5x3.5mm, Pitch 1.27mm, IPC Medium Density)
footprint TI-DCQ6_L (SOT223, 6-Leads, Body 6.5x3.5mm, Pitch 1.27mm, IPC High Density)
footprint TI-DCQ6_M (SOT223, 6-Leads, Body 6.5x3.5mm, Pitch 1.27mm, IPC Low Density)
pins: 1 ~{SHDN} (in) "Shutdown. S\H\D\N\ is used to put the TPS7A45xx regulators into a low-power shutdown state. The output is off when S\H\D\N\ is pulled low. S\H\D\N\ can be driven by 5-V logic, 3-V logic or open-collector logic with a pullup  (See Datasheet)", 2 IN (power) "Input. Power is supplied to the device through IN. A bypass capacitor is required on this pin if the device is more than six inches away from the main input filter capacitor. In general, the output impedance of a battery (See Datasheet)", 3 GND (power) "Ground", 4 OUT (power) "Output. The output supplies power to the load. A minimum output capacitor (ceramic) of 10 uF is required to  prevent oscillations. Larger output capacitors are required for applications with large transient loads to limit (See Datasheet)", 5 SENSE (in) "Sense. For fixed-voltage versions (TPS7A4515, TPS7A4518, TPS7A4525, and TPS7A4533), SENSE is the input to the error amplifier. Optimum regulation is obtained at the point where SENSE is connected to the OUT pin of the (See Datasheet)", 6 GND (power) "Ground. DCQ package only."

## TPS7A4533KTTR
designator U?
Single Output Fast Transient Response LDO, 1.5 A, Fixed 3.3 V Output, 2.1 to 20 V Input, 5-pin DDPAK (KTT), -40 to 125 degC, Green (RoHS & no Sb/Br); Manufacturer: Texas Instruments; PartNumber: TPS7A4533KTTR; Accuracy(%): 1; Fixed Output Options(V): 3.3; Iout(Max)(A): 1.5; SubFamily: Single Channel LDO; Vdo(Typ)(mV): 300; Vin(Max)(V): 20; Vin(Min)(V): 2.1; DatasheetVersion: SLVS720D; PackageVersion: 4200577-3/F; PackageReference: KTT5; PackageDescription: 3-Pin Plastic Flange Mount, Body 10.16 x 10.34 mm, Pitch 1.7 mm; Supplier 1: Digi-Key; Supplier Part Number 1: 296-23755-2-ND; Supplier 2: Digi-Key; Supplier Part Number 2: 296-23755-1-ND; Supplier 3: Digi-Key; Supplier Part Number 3: 296-23755-6-ND; Supplier 4: Farnell; Supplier Part Number 4: 1755658RL; Supplier 5: Farnell; Supplier Part Number 5: 1755658; Supplier 6: Newark; Supplier Part Number 6: 77R3194; Supplier 7: Newark; Supplier Part Number 7: 03P5252; Supplier 8: Mouser; Supplier Part Number 8: 595-TPS7A4533KTTR; Eco-Plan: Green (RoHS & no Sb/Br); Iq(Typ)(mA): 1; Vout Adj(Max)(V): 3.3; Vout Adj(Min)(V): 3.3; Mounting Technology: Surface Mount; Code_JEDEC: TO-263; ComponentLink1Description: Manufacturer URL; ComponentLink1URL: http://www.ti.com/; ComponentLink2Description: Datasheet; ComponentLink2URL: http://www.ti.com/general/docs/lit/getliterature.tsp?genericPartNumber=TPS7A4533&fileType=pdf; ComponentLink3Description: Package Specification; ComponentLink3URL: http://www.ti.com/litv/pdf/mpsf007e
footprint TI-KTT5_N (DPAK, 5-Leads, Body 10.16x8.925mm, Pitch 1.7mm, IPC Medium Density)
footprint TI-KTT5_L (DPAK, 5-Leads, Body 10.16x8.925mm, Pitch 1.7mm, IPC High Density)
footprint TI-KTT5_M (DPAK, 5-Leads, Body 10.16x8.925mm, Pitch 1.7mm, IPC Low Density)
pins: 1 ~{SHDN} (in) "Shutdown. S\H\D\N\ is used to put the TPS7A45xx regulators into a low-power shutdown state. The output is off when S\H\D\N\ is pulled low. S\H\D\N\ can be driven by 5-V logic, 3-V logic or open-collector logic with a pullup  (See Datasheet)", 2 IN (power) "Input. Power is supplied to the device through IN. A bypass capacitor is required on this pin if the device is more than six inches away from the main input filter capacitor. In general, the output impedance of a battery (See Datasheet)", 3 GND (power) "Ground", 4 OUT (power) "Output. The output supplies power to the load. A minimum output capacitor (ceramic) of 10 uF is required to  prevent oscillations. Larger output capacitors are required for applications with large transient loads to limit (See Datasheet)", 5 SENSE (in) "Sense. For fixed-voltage versions (TPS7A4515, TPS7A4518, TPS7A4525, and TPS7A4533), SENSE is the input to the error amplifier. Optimum regulation is obtained at the point where SENSE is connected to the OUT pin of the (See Datasheet)", 6 GND (power) "Ground. DCQ package only."

## TPS7A7001DDA
designator U?
Single Output Very Low Input LDO, 2 A, Adjustable 0.9 to 5 V Output, 1.5 to 6.5 V Input, 8-pin SOPowerPAD (DDA), -40 to 125 degC, Green (RoHS & no Sb/Br); Manufacturer: Texas Instruments; PartNumber: TPS7A7001DDA; Accuracy(%): 2; Iq(Typ)(mA): 0.01; SubFamily: Single Channel LDO; Vdo(Typ)(mV): 170; Vin(Max)(V): 6.5; Vin(Min)(V): 1.5; Vout Adj(Max)(V): 5; Vout Adj(Min)(V): 0.9; DatasheetVersion: SBVS134B; PackageVersion: 4202561/F; PackageReference: DDA8-2875X2025TP; PackageDescription: 8-Pin Plastic Small Outline, Body 3.9 x 4.9 mm, Pitch 1.27 mm; Supplier 1: Digi-Key; Supplier Part Number 1: 296-30254-ND; Supplier 2: Farnell; Supplier Part Number 2: 2095829; Supplier 3: Newark; Supplier Part Number 3: 91T5127; Supplier 4: Mouser; Supplier Part Number 4: 595-TPS7A7001DDA; Eco-Plan: Green (RoHS & no Sb/Br); Iout(Max)(A): 2; Mounting Technology: Surface Mount; Code_JEDEC: MS-012; ComponentLink1Description: Manufacturer URL; ComponentLink1URL: http://www.ti.com/; ComponentLink2Description: Datasheet; ComponentLink2URL: http://www.ti.com/general/docs/lit/getliterature.tsp?genericPartNumber=TPS7A7001&fileType=pdf; ComponentLink3Description: Package Specification; ComponentLink3URL: http://www.ti.com/litv/pdf/mpds092e
footprint TI-DDA8-2875X2025TP_N (SOP, 8-Leads, Body 4.9x3.9mm, Pitch 1.27mm, Thermal Pad 2.875X2.025mm, IPC Medium Density)
footprint TI-DDA8-2875X2025TP_L (SOP, 8-Leads, Body 4.9x3.9mm, Pitch 1.27mm, Thermal Pad 2.875X2.025mm, IPC High Density)
footprint TI-DDA8-2875X2025TP_M (SOP, 8-Leads, Body 4.9x3.9mm, Pitch 1.27mm, Thermal Pad 2.875X2.025mm, IPC Low Density)
part A pins: 2 EN (in) "Enable input. Pulling this pin below 0.5 V turns the regulator off. Connect to VIN if not being used.", 3 IN (power) "Unregulated supply voltage pin. It is recommended to connect an input capacitor to this pin.", 6 OUT (power) "Regulated output pin. A 4.7-uF or larger capacitor of any type is required for stability.", 7 FB (in) "This pin is the output voltage feedback input through voltage dividers. See the recommended feedback resistor table for more details.", 8 GND (power) "Ground pin", 9 EP (power) "It is strongly recommended to connect the thermal pad to a large-area ground plane. If an electrically floating, dedicated thermal plane is available, the thermal pad can also be connected to it."
part B pins: 1 NC "Not internally connected. The NC pin is not connected to any electrical node. It is recommended to connect the NC pin to large-area planes.", 4 NC "Not internally connected. The NC pin is not connected to any electrical node. It is recommended to connect the NC pin to large-area planes.", 5 NC "Not internally connected. The NC pin is not connected to any electrical node. It is recommended to connect the NC pin to large-area planes."

## TPS7A7001DDAR
designator U?
Single Output Very Low Input LDO, 2 A, Adjustable 0.9 to 5 V Output, 1.5 to 6.5 V Input, 8-pin SOPowerPAD (DDA), -40 to 125 degC, Green (RoHS & no Sb/Br); Manufacturer: Texas Instruments; PartNumber: TPS7A7001DDAR; Accuracy(%): 2; Iq(Typ)(mA): 0.01; SubFamily: Single Channel LDO; Vdo(Typ)(mV): 170; Vin(Max)(V): 6.5; Vin(Min)(V): 1.5; Vout Adj(Max)(V): 5; Vout Adj(Min)(V): 0.9; DatasheetVersion: SBVS134B; PackageVersion: 4202561/F; PackageReference: DDA8-2875X2025TP; PackageDescription: 8-Pin Plastic Small Outline, Body 3.9 x 4.9 mm, Pitch 1.27 mm; Supplier 1: Digi-Key; Supplier Part Number 1: TPS7A7001DDAR-ND; Supplier 2: Newark; Supplier Part Number 2: 82T4259; Supplier 3: Mouser; Supplier Part Number 3: 595-TPS7A7001DDAR; Eco-Plan: Green (RoHS & no Sb/Br); Iout(Max)(A): 2; Mounting Technology: Surface Mount; Code_JEDEC: MS-012; ComponentLink1Description: Manufacturer URL; ComponentLink1URL: http://www.ti.com/; ComponentLink2Description: Datasheet; ComponentLink2URL: http://www.ti.com/general/docs/lit/getliterature.tsp?genericPartNumber=TPS7A7001&fileType=pdf; ComponentLink3Description: Package Specification; ComponentLink3URL: http://www.ti.com/litv/pdf/mpds092e
footprint TI-DDA8-2875X2025TP_N (SOP, 8-Leads, Body 4.9x3.9mm, Pitch 1.27mm, Thermal Pad 2.875X2.025mm, IPC Medium Density)
footprint TI-DDA8-2875X2025TP_L (SOP, 8-Leads, Body 4.9x3.9mm, Pitch 1.27mm, Thermal Pad 2.875X2.025mm, IPC High Density)
footprint TI-DDA8-2875X2025TP_M (SOP, 8-Leads, Body 4.9x3.9mm, Pitch 1.27mm, Thermal Pad 2.875X2.025mm, IPC Low Density)
part A pins: 2 EN (in) "Enable input. Pulling this pin below 0.5 V turns the regulator off. Connect to VIN if not being used.", 3 IN (power) "Unregulated supply voltage pin. It is recommended to connect an input capacitor to this pin.", 6 OUT (power) "Regulated output pin. A 4.7-uF or larger capacitor of any type is required for stability.", 7 FB (in) "This pin is the output voltage feedback input through voltage dividers. See the recommended feedback resistor table for more details.", 8 GND (power) "Ground pin", 9 EP (power) "It is strongly recommended to connect the thermal pad to a large-area ground plane. If an electrically floating, dedicated thermal plane is available, the thermal pad can also be connected to it."
part B pins: 1 NC "Not internally connected. The NC pin is not connected to any electrical node. It is recommended to connect the NC pin to large-area planes.", 4 NC "Not internally connected. The NC pin is not connected to any electrical node. It is recommended to connect the NC pin to large-area planes.", 5 NC "Not internally connected. The NC pin is not connected to any electrical node. It is recommended to connect the NC pin to large-area planes."

## TPS7A7002DDAR
designator U?  Supplier Part Number 1: 296-40977-1-ND
Linear Voltage Regulator IC  1 Output  3A 8-SO PowerPad; Vendor: Texas Instruments; Built_By: EMA_UL_Team; SourceLibrary: TI_2017-02-16; Manufacturer_Part_Number: TPS7A7002DDAR; Copyright: Copyright (C) 2018 Accelerated Designs. All rights reserved; RefDes: RefDes; Type: DEV; Supplier 1: Digi-Key
footprint DDA8_3P1X2P4_TEX
pins: 1 NC, 2 EN (in), 3 IN (in), 4 NC, 5 NC, 6 OUT (out), 7 FB (in), 8 GND (power), EPAD